# EAGLE library part 62302821021 (library Board_to_Board_Connectors_rev15d)
WR-PHD 1.27mm Dual SMT Socket Header H=4.50mm, 28 Pins=>Code : Con_BTB_SHD_1.27_2_62302821021 <http://katalog.we-online.de/media/thumbs2/eican/thb_Con_BTB_SHD_1.27_2_6230xx21021_pf2.jpg> Details see: http://katalog.we-online.de/en/em/623_0xx_210_21 Created 2014-06-04, Karrer Zheng 2014 (C) Würth Elektronik
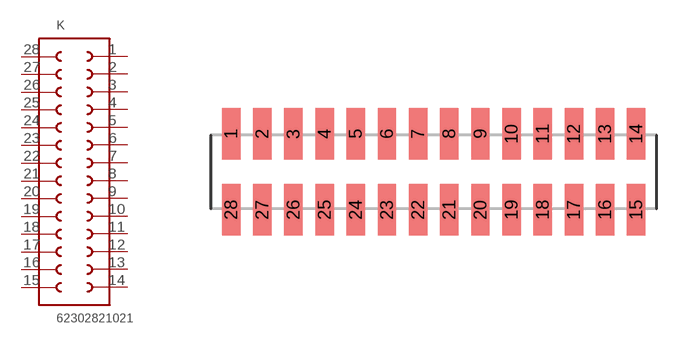
[diagram p312: symbol with the pads of 62302821021; footprint 62302821021]

Designator prefix K

## 62302821021  [62302821021]
1  1  pas
2  2  pas
3  3  pas
4  4  pas
5  5  pas
6  6  pas
7  7  pas
8  8  pas
9  9  pas
10  10  pas
11  11  pas
12  12  pas
13  13  pas
14  14  pas
15  15  pas
16  16  pas
17  17  pas
18  18  pas
19  19  pas
20  20  pas
21  21  pas
22  22  pas
23  23  pas
24  24  pas
25  25  pas
26  26  pas
27  27  pas
28  28  pas

## Footprint 62302821021 (pad centres in mm)
WR-PHD 1.27mm Dual SMT Socket Header H=4.50mm, 28 Pins
smd 0.75 x 2.1: 1 -8.255,1.55; 2 -6.985,1.55; 3 -5.715,1.55; 4 -4.445,1.55; 5 -3.175,1.55; 6 -1.905,1.55; 7 -0.635,1.55; 8 0.635,1.55; 9 1.905,1.55; 10 3.175,1.55; 11 4.445,1.55; 12 5.715,1.55; 13 6.985,1.55; 14 8.255,1.55; 15 8.255,-1.55; 16 6.985,-1.55; 17 5.715,-1.55; 18 4.445,-1.55; 19 3.175,-1.55; 20 1.905,-1.55; 21 0.635,-1.55; 22 -0.635,-1.55; 23 -1.905,-1.55; 24 -3.175,-1.55; 25 -4.445,-1.55; 26 -5.715,-1.55; 27 -6.985,-1.55; 28 -8.255,-1.55